# Altium schematic symbol library C0603C223K4REC.SchLib: 1 symbol
Pins are listed as number, name and electrical type; pins without a type are passive.

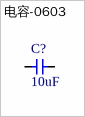
[diagram p0: symbol 电容-0603]

## 电容-0603
designator C?, comment 10uF
Capacitor; Value: 0.1u
footprint CAPC1608X87N
pins: 1, 2